# Altium integrated library Voltage Regulator - Switchmode.IntLib: 70 symbols (part 2 of 2)
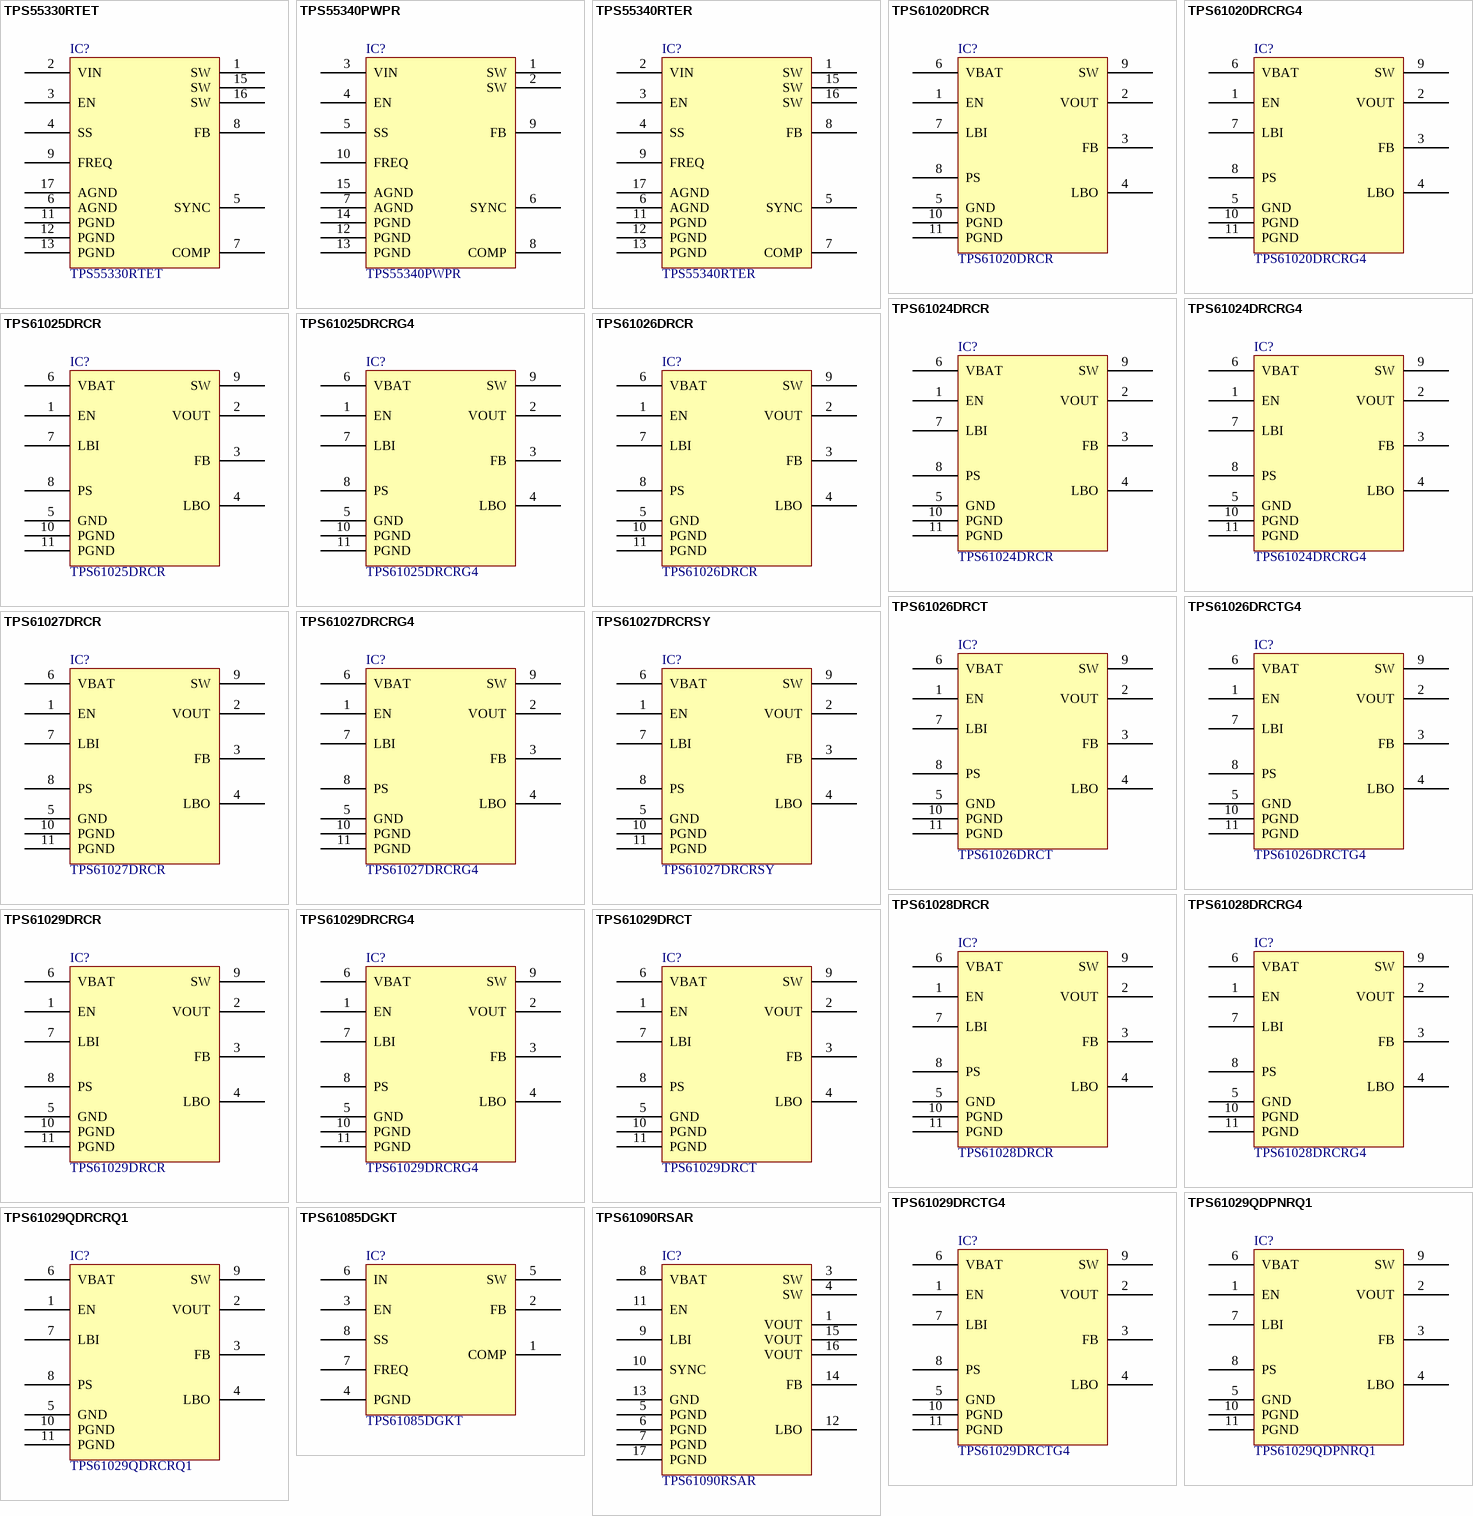
[diagram p3: symbols TPS55330RTET to TPS61090RSAR]

## TPS61029DRCT
designator IC?
IC REG BOOST ADJ 1.8A SYNC 10SON; Manufacturer: Texas Instruments; Function: Step-Up; Output Configuration: Positive; Output Type: Adjustable; Number Of Outputs: 1; Voltage - Input (Max): 5.5V; Current Output: 1.8A (Switch); Frequency - Switching: 600kHz; Part Number: TPS61029DRCT; PartId: 9363; Supplier 1: Digi-Key; Supplier Part Number 1: 296-19559-2-ND; ComponentLink1Description: Datasheet; ComponentLink1URL: http://www.ti.com/lit/ds/symlink/tps61020.pdf; ComponentLink2Description: Digi-Key Listing; ComponentLink2URL: https://www.digikey.com/product-detail/en/TPS61029DRCT/296-19559-2-ND/1004613; Device Package: 10-VFDFN Exposed Pad; Price: 1.76; Series: -; Operating Temperature: -40C ~ 85C (TA)
footprint TI PVSON-10 3x3MM DRC
pins: 1 EN, 2 VOUT, 3 FB, 4 LBO, 5 GND, 6 VBAT, 7 LBI, 8 PS, 9 SW, 10 PGND, 11 PGND

## TPS61029DRCTG4
designator IC?
IC REG BOOST ADJ 1.8A SYNC 10SON; Manufacturer: Texas Instruments; Function: Step-Up; Output Configuration: Positive; Output Type: Adjustable; Number Of Outputs: 1; Voltage - Input (Max): 5.5V; Current Output: 1.8A (Switch); Frequency - Switching: 600kHz; Part Number: TPS61029DRCTG4; PartId: 9364; Supplier 1: Digi-Key; Supplier Part Number 1: TPS61029DRCTG4-ND; ComponentLink1Description: Datasheet; ComponentLink1URL: http://www.ti.com/lit/ds/symlink/tps61020.pdf; ComponentLink2Description: Digi-Key Listing; ComponentLink2URL: https://www.digikey.com/product-detail/en/TPS61029DRCTG4/TPS61029DRCTG4-ND/1672123; Device Package: 10-VFDFN Exposed Pad; Price: 1.54; Series: -; Operating Temperature: -40C ~ 85C (TA)
footprint TI PVSON-10 3x3MM DRC
pins: 1 EN, 2 VOUT, 3 FB, 4 LBO, 5 GND, 6 VBAT, 7 LBI, 8 PS, 9 SW, 10 PGND, 11 PGND

## TPS61029QDPNRQ1
designator IC?
IC REG BOOST ADJ 1.8A 10VSON; Manufacturer: Texas Instruments; Function: Step-Up; Output Configuration: Positive; Output Type: Adjustable; Number Of Outputs: 1; Voltage - Input (Max): 5.5V; Current Output: 1.8A (Switch); Frequency - Switching: 600kHz; Part Number: TPS61029QDPNRQ1; PartId: 9365; Supplier 1: Digi-Key; Supplier Part Number 1: 296-40817-2-ND; ComponentLink1Description: Datasheet; ComponentLink1URL: http://www.ti.com/lit/ds/symlink/tps61029-q1.pdf; ComponentLink2Description: Digi-Key Listing; ComponentLink2URL: https://www.digikey.com/product-detail/en/TPS61029QDPNRQ1/296-40817-2-ND/5057838; Device Package: 10-VFDFN Exposed Pad; Price: 1.7775; Series: Automotive, AEC-Q100; Operating Temperature: -40C ~ 125C (TJ)
footprint TI PVSON-10 3x3MM DRC
pins: 1 EN, 2 VOUT, 3 FB, 4 LBO, 5 GND, 6 VBAT, 7 LBI, 8 PS, 9 SW, 10 PGND, 11 PGND

## TPS61029QDRCRQ1
designator IC?
IC REG BOOST ADJ 1.8A SYNC 10SON; Manufacturer: Texas Instruments; Function: Step-Up; Output Configuration: Positive; Output Type: Adjustable; Number Of Outputs: 1; Voltage - Input (Max): 5.5V; Current Output: 1.8A (Switch); Frequency - Switching: 600kHz; Part Number: TPS61029QDRCRQ1; PartId: 9366; Supplier 1: Digi-Key; Supplier Part Number 1: 296-27295-2-ND; ComponentLink1Description: Datasheet; ComponentLink1URL: http://www.ti.com/lit/ds/symlink/tps61029-q1.pdf; ComponentLink2Description: Digi-Key Listing; ComponentLink2URL: https://www.digikey.com/product-detail/en/TPS61029QDRCRQ1/296-27295-2-ND/2232822; Device Package: 10-VFDFN Exposed Pad; Price: 1.4625; Series: Automotive, AEC-Q100; Operating Temperature: -40C ~ 125C (TJ)
footprint TI PVSON-10 3x3MM DRC
pins: 1 EN, 2 VOUT, 3 FB, 4 LBO, 5 GND, 6 VBAT, 7 LBI, 8 PS, 9 SW, 10 PGND, 11 PGND

## TPS61085DGKT
designator IC?
IC REG BOOST ADJ 2A 8VSSOP; Manufacturer: Texas Instruments; Function: Step-Up; Output Configuration: Positive; Output Type: Adjustable; Number Of Outputs: 1; Voltage - Input (Min): 2.3V; Voltage - Input (Max): 6V; Voltage - Output (Min/Fixed): 2.8V; Voltage - Output (Max): 18.5V; Current Output: 2A (Switch); Frequency - Switching: 650kHz, 1.2MHz; Synchronous Rectifier: No; Part Number: TPS61085DGKT; PartId: 9380; Supplier 1: Digi-Key; Supplier Part Number 1: 296-23550-2-ND; ComponentLink1Description: Datasheet; ComponentLink1URL: http://www.ti.com/lit/ds/symlink/tps61085.pdf; ComponentLink2Description: Digi-Key Listing; ComponentLink2URL: http://www.digikey.com/product-detail/en/TPS61085DGKT/296-23550-2-ND/1880907; Device Package: 8-TSSOP, 8-MSOP (0.118", 3.00mm Width); Price: 1.858; Series: -; Operating Temperature: -40C ~ 85C (TA); Topology: Boost
footprint TI VSSOP-8 DGK
pins: 1 COMP, 2 FB, 3 EN, 4 PGND, 5 SW, 6 IN, 7 FREQ, 8 SS

## TPS61090RSAR
designator IC?
IC REG BOOST ADJ 2A SYNC 16VQFN; Manufacturer: Texas Instruments; Function: Step-Up; Output Configuration: Positive; Output Type: Adjustable; Number Of Outputs: 1; Voltage - Input (Min): 1.8V; Voltage - Input (Max): 5.5V; Current Output: 2A (Switch); Frequency - Switching: 600kHz; Synchronous Rectifier: Yes; Part Number: TPS61090RSAR; PartId: 9386; Supplier 1: Digi-Key; Supplier Part Number 1: 296-15259-2-ND; ComponentLink1Description: Datasheet; ComponentLink1URL: http://www.ti.com/lit/ds/symlink/tps61090.pdf; ComponentLink2Description: Digi-Key Listing; ComponentLink2URL: http://www.digikey.com/product-detail/en/TPS61090RSAR/296-15259-2-ND/566911; Device Package: 16-VQFN Exposed Pad; Price: 1.0687; Series: -; Operating Temperature: -40C ~ 85C (TA); Topology: Boost; Voltage - Output (Min/Fixed): 1.8V; Voltage - Output (Max): 5.5V
footprint TI PVQFN-16 4x4MM RSA
pins: 1 VOUT, 3 SW, 4 SW, 5 PGND, 6 PGND, 7 PGND, 8 VBAT, 9 LBI, 10 SYNC, 11 EN, 12 LBO, 13 GND, 14 FB, 15 VOUT, 16 VOUT, 17 PGND

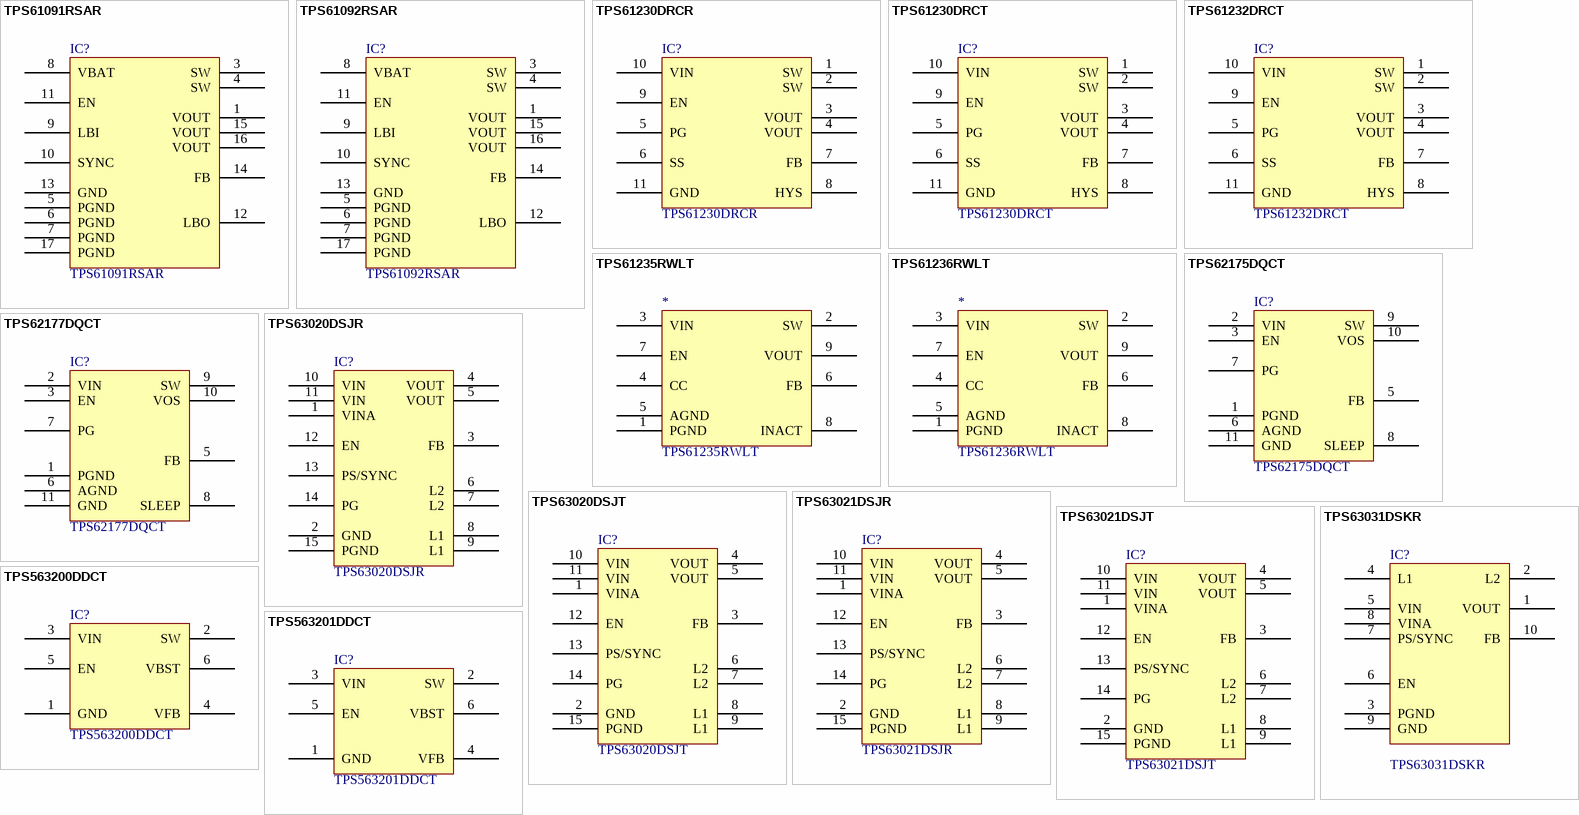
[diagram p2: symbols TPS61091RSAR to TPS563201DDCT]

## TPS61091RSAR
designator IC?
IC REG BOOST 3.3V 2A SYNC 16VQFN; Manufacturer: Texas Instruments; Function: Step-Up; Output Configuration: Positive; Output Type: Fixed; Number Of Outputs: 1; Voltage - Input (Min): 1.8V; Voltage - Input (Max): 5.5V; Current Output: 2A (Switch); Frequency - Switching: 600kHz; Synchronous Rectifier: Yes; Part Number: TPS61091RSAR; PartId: 9387; Supplier 1: Digi-Key; Supplier Part Number 1: 296-15239-2-ND; ComponentLink1Description: Datasheet; ComponentLink1URL: http://www.ti.com/lit/ds/symlink/tps61090.pdf; ComponentLink2Description: Digi-Key Listing; ComponentLink2URL: http://www.digikey.com/product-detail/en/TPS61091RSAR/296-15239-2-ND/566516; Device Package: 16-VQFN Exposed Pad; Price: 1.0687; Series: -; Operating Temperature: -40C ~ 85C (TA); Topology: Boost; Voltage - Output (Min/Fixed): 3.3V; Voltage - Output (Max): -
footprint TI PVQFN-16 4x4MM RSA
pins: 1 VOUT, 3 SW, 4 SW, 5 PGND, 6 PGND, 7 PGND, 8 VBAT, 9 LBI, 10 SYNC, 11 EN, 12 LBO, 13 GND, 14 FB, 15 VOUT, 16 VOUT, 17 PGND

## TPS61092RSAR
designator IC?
IC REG BOOST 5V 2A SYNC 16VQFN; Manufacturer: Texas Instruments; Function: Step-Up; Output Configuration: Positive; Output Type: Fixed; Number Of Outputs: 1; Voltage - Input (Min): 1.8V; Voltage - Input (Max): 5.5V; Current Output: 2A (Switch); Frequency - Switching: 600kHz; Synchronous Rectifier: Yes; Part Number: TPS61092RSAR; PartId: 9388; Supplier 1: Digi-Key; Supplier Part Number 1: 296-15240-2-ND; ComponentLink1Description: Datasheet; ComponentLink1URL: http://www.ti.com/lit/ds/symlink/tps61090.pdf; ComponentLink2Description: Digi-Key Listing; ComponentLink2URL: http://www.digikey.com/product-detail/en/TPS61092RSAR/296-15240-2-ND/566515; Device Package: 16-VQFN Exposed Pad; Price: 1.0687; Series: -; Operating Temperature: -40C ~ 85C (TA); Topology: Boost; Voltage - Output (Min/Fixed): 5V; Voltage - Output (Max): -
footprint TI PVQFN-16 4x4MM RSA
pins: 1 VOUT, 3 SW, 4 SW, 5 PGND, 6 PGND, 7 PGND, 8 VBAT, 9 LBI, 10 SYNC, 11 EN, 12 LBO, 13 GND, 14 FB, 15 VOUT, 16 VOUT, 17 PGND

## TPS61230DRCR
designator IC?
IC REG BOOST ADJ 4A SYNC 10SON; Manufacturer: Texas Instruments; Function: Step-Up; Output Configuration: Positive; Output Type: Adjustable; Number Of Outputs: 1; Voltage - Input (Min): 2.3V; Voltage - Input (Max): 5.5V; Voltage - Output (Min/Fixed): 2.5V; Current Output: 4A (Switch); Frequency - Switching: 2MHz; Synchronous Rectifier: Yes; Part Number: TPS61230DRCR; PartId: 9383; Supplier 1: Digi-Key; Supplier Part Number 1: 296-37761-2-ND; ComponentLink1Description: Datasheet; ComponentLink1URL: http://www.ti.com/lit/pdf/slvt145; ComponentLink2Description: Digi-Key Listing; ComponentLink2URL: http://www.digikey.com/product-detail/en/TPS61230DRCR/296-37761-2-ND/4840668; Device Package: 10-VFDFN Exposed Pad; Price: 1.2937; Series: -; Operating Temperature: -40C ~ 125C (TJ); Topology: Boost; Voltage - Output (Max): 5.5V
footprint TI PVSON-10 3x3MM DRC
pins: 1 SW, 2 SW, 3 VOUT, 4 VOUT, 5 PG, 6 SS, 7 FB, 8 HYS, 9 EN, 10 VIN, 11 GND

## TPS61230DRCT
designator IC?
IC REG BOOST ADJ 4A SYNC 10SON; Manufacturer: Texas Instruments; Function: Step-Up; Output Configuration: Positive; Output Type: Adjustable; Number Of Outputs: 1; Voltage - Input (Min): 2.3V; Voltage - Input (Max): 5.5V; Voltage - Output (Min/Fixed): 2.5V; Current Output: 4A (Switch); Frequency - Switching: 2MHz; Synchronous Rectifier: Yes; Part Number: TPS61230DRCT; PartId: 9382; Supplier 1: Digi-Key; Supplier Part Number 1: 296-39436-2-ND; ComponentLink1Description: Datasheet; ComponentLink1URL: http://www.ti.com/lit/pdf/slvt145; ComponentLink2Description: Digi-Key Listing; ComponentLink2URL: http://www.digikey.com/product-detail/en/TPS61230DRCT/296-39436-2-ND/4825346; Device Package: 10-VFDFN Exposed Pad; Price: 2.1978; Series: -; Operating Temperature: -40C ~ 125C (TJ); Topology: Boost; Voltage - Output (Max): 5.5V
footprint TI PVSON-10 3x3MM DRC
pins: 1 SW, 2 SW, 3 VOUT, 4 VOUT, 5 PG, 6 SS, 7 FB, 8 HYS, 9 EN, 10 VIN, 11 GND

## TPS61232DRCT
designator IC?
IC REG BOOST 5V 4A SYNC 10SON; Manufacturer: Texas Instruments; Function: Step-Up; Output Configuration: Positive; Output Type: Fixed; Number Of Outputs: 1; Voltage - Input (Min): 2.3V; Voltage - Input (Max): 5.5V; Current Output: 4A (Switch); Frequency - Switching: 2MHz; Synchronous Rectifier: Yes; Part Number: TPS61232DRCT; PartId: 9381; Supplier 1: Digi-Key; Supplier Part Number 1: 296-37990-2-ND; ComponentLink1Description: Datasheet; ComponentLink1URL: http://www.ti.com/lit/ds/symlink/tps61232.pdf; ComponentLink2Description: Digi-Key Listing; ComponentLink2URL: http://www.digikey.com/product-detail/en/TPS61232DRCT/296-37990-2-ND/4924051; Device Package: 10-VFDFN Exposed Pad; Price: 2.1978; Series: -; Operating Temperature: -40C ~ 125C (TJ); Topology: Boost; Voltage - Output (Min/Fixed): 5V; Voltage - Output (Max): -
footprint TI PVSON-10 3x3MM DRC
pins: 1 SW, 2 SW, 3 VOUT, 4 VOUT, 5 PG, 6 SS, 7 FB, 8 HYS, 9 EN, 10 VIN, 11 GND

## TPS61235RWLT
designator *
IC REG BOOST 5.1V 6.5A 9WQFN; Manufacturer: Texas Instruments; Function: Step-Up; Output Configuration: Positive; Output Type: Fixed; Number Of Outputs: 1; Voltage - Input (Min): 2.3V; Voltage - Input (Max): 4.5V; Current Output: 6.5A (Switch); Frequency - Switching: 1MHz; Synchronous Rectifier: Yes; Part Number: TPS61235RWLT; PartId: 9384; Supplier 1: Digi-Key; Supplier Part Number 1: 296-43155-2-ND; ComponentLink1Description: Datasheet; ComponentLink1URL: http://www.ti.com/lit/ds/symlink/tps61235.pdf; ComponentLink2Description: Digi-Key Listing; ComponentLink2URL: http://www.digikey.com/product-detail/en/TPS61235RWLT/296-43155-2-ND/5724131; Device Package: 9-VFQFN; Price: 3.0636; Series: -; Operating Temperature: -40C ~ 85C (TA); Topology: Boost; Voltage - Output (Min/Fixed): 5.1V; Voltage - Output (Max): -
footprint TI VQFN-9 3x3MM RWL
pins: 1 PGND, 2 SW, 3 VIN, 4 CC, 5 AGND, 6 FB, 7 EN, 8 INACT, 9 VOUT

## TPS61236RWLT
designator *
IC REG BOOST ADJ 6.5A SYNC 9WQFN; Manufacturer: Texas Instruments; Function: Step-Up; Output Configuration: Positive; Output Type: Adjustable; Number Of Outputs: 1; Voltage - Input (Min): 2.3V; Voltage - Input (Max): 4.9V; Voltage - Output (Min/Fixed): 2.9V; Voltage - Output (Max): 5.5V; Current Output: 6.5A (Switch); Frequency - Switching: 1MHz; Synchronous Rectifier: Yes; Part Number: TPS61236RWLT; PartId: 9385; Supplier 1: Digi-Key; Supplier Part Number 1: 296-43156-2-ND; ComponentLink1Description: Datasheet; ComponentLink1URL: http://www.ti.com/lit/ds/symlink/tps61235.pdf; ComponentLink2Description: Digi-Key Listing; ComponentLink2URL: http://www.digikey.com/product-detail/en/TPS61236RWLT/296-43156-2-ND/5724132; Device Package: 9-VFQFN; Price: 3.0636; Series: -; Operating Temperature: -40C ~ 85C (TA); Topology: Boost
footprint TI VQFN-9 3x3MM RWL
pins: 1 PGND, 2 SW, 3 VIN, 4 CC, 5 AGND, 6 FB, 7 EN, 8 INACT, 9 VOUT

## TPS62175DQCT
designator IC?
IC REG BUCK BST ADJ 0.8A 10WSON; Manufacturer: Texas Instruments; Function: Step-Down, Step-Up/Step-Down; Output Configuration: Positive; Topology: Buck, Buck-Boost; Output Type: Adjustable; Number Of Outputs: 1; Voltage - Input (Min): 4.75V; Voltage - Input (Max): 28V; Voltage - Output (Min/Fixed): 1V; Voltage - Output (Max): 6V; Current Output: 500mA; Frequency - Switching: 1MHz; Synchronous Rectifier: Yes; Part Number: TPS62175DQCT; PartId: 16765; Supplier 1: Digi-Key; Supplier Part Number 1: 296-35096-2-ND; ComponentLink1Description: Datasheet; ComponentLink1URL: http://www.ti.com/lit/ds/symlink/tps62175.pdf; ComponentLink2Description: Digi-Key Listing; ComponentLink2URL: http://www.digikey.com/product-detail/en/texas-instruments/TPS62175DQCT/296-35096-2-ND/3726993; Device Package: 10-WFDFN Exposed Pad; Price: 1.242; Type: DC DC Switching Regulators; Series: DCS-Control; Operating Temperature: -40C ~ 85C (TA)
footprint TI WSON-10 DQC
pins: 1 PGND, 2 VIN, 3 EN, 5 FB, 6 AGND, 7 PG, 8 SLEEP, 9 SW, 10 VOS, 11 GND

## TPS62177DQCT
designator IC?
IC REG BUCK BST 3.3V 0.8A 10WSON; Manufacturer: Texas Instruments; Function: Step-Down, Step-Up/Step-Down; Output Configuration: Positive; Topology: Buck, Buck-Boost; Output Type: Fixed; Number Of Outputs: 1; Voltage - Input (Min): 4.75V; Voltage - Input (Max): 28V; Current Output: 800mA (Switch); Frequency - Switching: 1MHz; Synchronous Rectifier: Yes; Part Number: TPS62177DQCT; PartId: 16766; Supplier 1: Digi-Key; Supplier Part Number 1: 296-35097-2-ND; ComponentLink1Description: Datasheet; ComponentLink1URL: http://www.ti.com/lit/ds/symlink/tps62177.pdf; ComponentLink2Description: Digi-Key Listing; ComponentLink2URL: http://www.digikey.com/product-detail/en/texas-instruments/TPS62177DQCT/296-35097-2-ND/3726994; Device Package: 10-WFDFN Exposed Pad; Price: 1.242; Type: DC DC Switching Regulators; Series: DCS-Control; Operating Temperature: -40C ~ 85C (TA); Voltage - Output (Min/Fixed): 3.3V; Voltage - Output (Max): -
footprint TI WSON-10 DQC
pins: 1 PGND, 2 VIN, 3 EN, 5 FB, 6 AGND, 7 PG, 8 SLEEP, 9 SW, 10 VOS, 11 GND

## TPS63020DSJR
designator IC?
IC REG BUCK BST ADJ 3.5A 14VSON; Manufacturer: Texas Instruments; Function: Step-Up/Step-Down; Output Configuration: Positive; Topology: Buck-Boost; Output Type: Adjustable; Number Of Outputs: 1; Voltage - Input (Min): 1.8V; Voltage - Input (Max): 5.5V; Voltage - Output (Min/Fixed): 1.2V; Current Output: 3.5A (Switch); Frequency - Switching: 2.4MHz; Synchronous Rectifier: Yes; Part Number: TPS63020DSJR; PartId: 16408; Supplier 1: Digi-Key; Supplier Part Number 1: 296-36491-2-ND; ComponentLink1Description: Datasheet; ComponentLink1URL: http://www.ti.com/lit/ds/symlink/tps63020.pdf; ComponentLink2Description: Digi-Key Listing; ComponentLink2URL: http://www.digikey.ca/product-detail/en/texas-instruments/TPS63020DSJR/296-36491-2-ND/2353761; Device Package: 14-VFDFN Exposed Pad; Price: 2.0629; Type: PMIC - Voltage Regulators; Series: -; Operating Temperature: -40C ~ 85C (TA); Voltage - Output (Max): 5.5V
footprint TI PVSON-14 DSJ
pins: 1 VINA, 2 GND, 3 FB, 4 VOUT, 5 VOUT, 6 L2, 7 L2, 8 L1, 9 L1, 10 VIN, 11 VIN, 12 EN, 13 PS/SYNC, 14 PG, 15 PGND

## TPS63020DSJT
designator IC?
IC REG BUCK BST ADJ 3.5A 14VSON; Manufacturer: Texas Instruments; Function: Step-Up/Step-Down; Output Configuration: Positive; Topology: Buck-Boost; Output Type: Adjustable; Number Of Outputs: 1; Voltage - Input (Min): 1.8V; Voltage - Input (Max): 5.5V; Voltage - Output (Min/Fixed): 1.2V; Current Output: 3.5A (Switch); Frequency - Switching: 2.4MHz; Synchronous Rectifier: Yes; Part Number: TPS63020DSJT; PartId: 16411; Supplier 1: Digi-Key; Supplier Part Number 1: 296-27230-2-ND; ComponentLink1Description: Datasheet; ComponentLink1URL: http://www.ti.com/lit/ds/symlink/tps63020.pdf; ComponentLink2Description: Digi-Key Listing; ComponentLink2URL: http://www.digikey.ca/product-detail/en/texas-instruments/TPS63020DSJT/296-27230-2-ND/2263063; Device Package: 14-VFDFN Exposed Pad; Price: 3.5125; Type: PMIC - Voltage Regulators; Series: -; Operating Temperature: -40C ~ 85C (TA); Voltage - Output (Max): 5.5V
footprint TI PVSON-14 DSJ
pins: 1 VINA, 2 GND, 3 FB, 4 VOUT, 5 VOUT, 6 L2, 7 L2, 8 L1, 9 L1, 10 VIN, 11 VIN, 12 EN, 13 PS/SYNC, 14 PG, 15 PGND

## TPS63021DSJR
designator IC?
IC REG BUCK BST 3.3V 3.5A 14VSON; Manufacturer: Texas Instruments; Function: Step-Up/Step-Down; Output Configuration: Positive; Topology: Buck-Boost; Output Type: Fixed; Number Of Outputs: 1; Voltage - Input (Min): 1.8V; Voltage - Input (Max): 5.5V; Current Output: 3.5A (Switch); Frequency - Switching: 2.4MHz; Synchronous Rectifier: Yes; Part Number: TPS63021DSJR; PartId: 16410; Supplier 1: Digi-Key; Supplier Part Number 1: 296-27259-2-ND; ComponentLink1Description: Datasheet; ComponentLink1URL: http://www.ti.com/lit/ds/symlink/tps63021.pdf; ComponentLink2Description: Digi-Key Listing; ComponentLink2URL: http://www.digikey.ca/product-detail/en/texas-instruments/TPS63021DSJR/296-27259-2-ND/2271632; Device Package: 14-VFDFN Exposed Pad; Price: 2.0629; Type: PMIC - Voltage Regulators; Series: -; Operating Temperature: -40C ~ 85C (TA); Voltage - Output (Min/Fixed): 3.3V; Voltage - Output (Max): -
footprint TI PVSON-14 DSJ
pins: 1 VINA, 2 GND, 3 FB, 4 VOUT, 5 VOUT, 6 L2, 7 L2, 8 L1, 9 L1, 10 VIN, 11 VIN, 12 EN, 13 PS/SYNC, 14 PG, 15 PGND

## TPS63021DSJT
designator IC?
IC REG BUCK BST 3.3V 3.5A 14VSON; Manufacturer: Texas Instruments; Function: Step-Up/Step-Down; Output Configuration: Positive; Topology: Buck-Boost; Output Type: Fixed; Number Of Outputs: 1; Voltage - Input (Min): 1.8V; Voltage - Input (Max): 5.5V; Current Output: 3.5A (Switch); Frequency - Switching: 2.4MHz; Synchronous Rectifier: Yes; Part Number: TPS63021DSJT; PartId: 16409; Supplier 1: Digi-Key; Supplier Part Number 1: 296-37448-2-ND; ComponentLink1Description: Datasheet; ComponentLink1URL: http://www.ti.com/lit/ds/symlink/tps63021.pdf; ComponentLink2Description: Digi-Key Listing; ComponentLink2URL: http://www.digikey.ca/product-detail/en/texas-instruments/TPS63021DSJT/296-37448-2-ND/2353762; Device Package: 14-VFDFN Exposed Pad; Price: 3.5125; Type: PMIC - Voltage Regulators; Series: -; Operating Temperature: -40C ~ 85C (TA); Voltage - Output (Min/Fixed): 3.3V; Voltage - Output (Max): -
footprint TI PVSON-14 DSJ
pins: 1 VINA, 2 GND, 3 FB, 4 VOUT, 5 VOUT, 6 L2, 7 L2, 8 L1, 9 L1, 10 VIN, 11 VIN, 12 EN, 13 PS/SYNC, 14 PG, 15 PGND

## TPS63031DSKR
designator IC?
IC REG BUCK-BOOST 1.0A 10VSON; Manufacturer: Texas Instruments; Function: Step-Up/Step-Down; Output Configuration: Positive; Output Type: Fixed; Number Of Outputs: 1; Voltage - Input (Min): 1.8V; Voltage - Input (Max): 5.5V; Voltage - Output: 3.3V; Current Output: 1.0A (Switch); Frequency - Switching: 2.4MHz; Synchronous Rectifier: Yes; Part Number: TPS63031DSKR; Supplier 1: Digi-Key; Supplier Part Number 1: 296-39461-2-ND; ComponentLink1Description: Datasheet; ComponentLink1URL: http://www.ti.com/lit/ds/symlink/tps63031.pdf; ComponentLink2Description: Digi-Key Listing; ComponentLink2URL: https://www.digikey.com/product-detail/en/texas-instruments/TPS63031DSKR/296-39461-2-ND/2048021; Device Package: 10-VSON; Price: 0.85; Type: PMIC - Voltage Regulators; Series: -; Operating Temperature: -40C ~ 85C (TA); Topology: Buck-Boost
footprint TI VSON-10 (DFN, 10-Leads, Body 3.00x3.00mm, Pitch 0.50mm, Thermal Pad 1.20x2.00mm, IPC Medium Density)
pins: 1 VOUT, 2 L2, 3 PGND, 4 L1, 5 VIN, 6 EN, 7 PS/SYNC, 8 VINA, 9 GND, 10 FB

## TPS563200DDCT
designator IC?
IC REG BUCK ADJ 3A SYNC; Manufacturer: Texas Instruments; Function: Step-Down; Output Configuration: Positive; Output Type: Adjustable; Number Of Outputs: 1; Voltage - Input (Min): 4.5V; Voltage - Input (Max): 17V; Voltage - Output (Min/Fixed): 0.768V; Voltage - Output (Max): 7V; Frequency - Switching: 650kHz; Synchronous Rectifier: Yes; Part Number: TPS563200DDCT; PartId: 16367; Supplier 1: Digi-Key; Supplier Part Number 1: 296-38434-2-ND; ComponentLink1Description: Datasheet; ComponentLink1URL: https://www.ti.com/lit/gpn/tps563200; ComponentLink2Description: Digi-Key Listing; ComponentLink2URL: https://www.digikey.com/en/products/detail/texas-instruments/TPS563200DDCT; Device Package: SOT-23-6 Thin, TSOT-23-6; Price: 0.8901; Type: DC DC Switching Regulators; Series: D-CAP2, Eco-Mode; Operating Temperature: -45C ~ 125C (TJ); Topology: Buck; Current Output: 3A
footprint TI SOT-23-6 DDC
pins: 1 GND, 2 SW, 3 VIN, 4 VFB, 5 EN, 6 VBST

## TPS563201DDCT
designator IC?
IC REG BUCK ADJ 3A SYNC; Manufacturer: Texas Instruments; Function: Step-Down; Output Configuration: Positive; Output Type: Adjustable; Number Of Outputs: 1; Voltage - Input (Min): 4.5V; Voltage - Input (Max): 17V; Voltage - Output (Min/Fixed): 0.768V; Voltage - Output (Max): 7V; Frequency - Switching: 580kHz; Synchronous Rectifier: Yes; Part Number: TPS563201DDCT; PartId: 16367; Supplier 1: Digi-Key; Supplier Part Number 1: 296-43393-2-ND; ComponentLink1Description: Datasheet; ComponentLink1URL: http://www.ti.com/lit/ds/symlink/tps563201.pdf; ComponentLink2Description: Digi-Key Listing; ComponentLink2URL: http://www.digikey.com/product-detail/en/texas-instruments/TPS563201DDCT/296-43393-2-ND/5813458; Device Package: SOT-23-6 Thin, TSOT-23-6; Price: 0.8901; Type: DC DC Switching Regulators; Series: D-CAP2, Eco-Mode; Operating Temperature: -45C ~ 125C (TJ); Topology: Buck; Current Output: 3A
footprint TI SOT-23-6 DDC
pins: 1 GND, 2 SW, 3 VIN, 4 VFB, 5 EN, 6 VBST